# Altium integrated library ON Semi MOSFETs.IntLib: 1097 symbols (part 14 of 26)
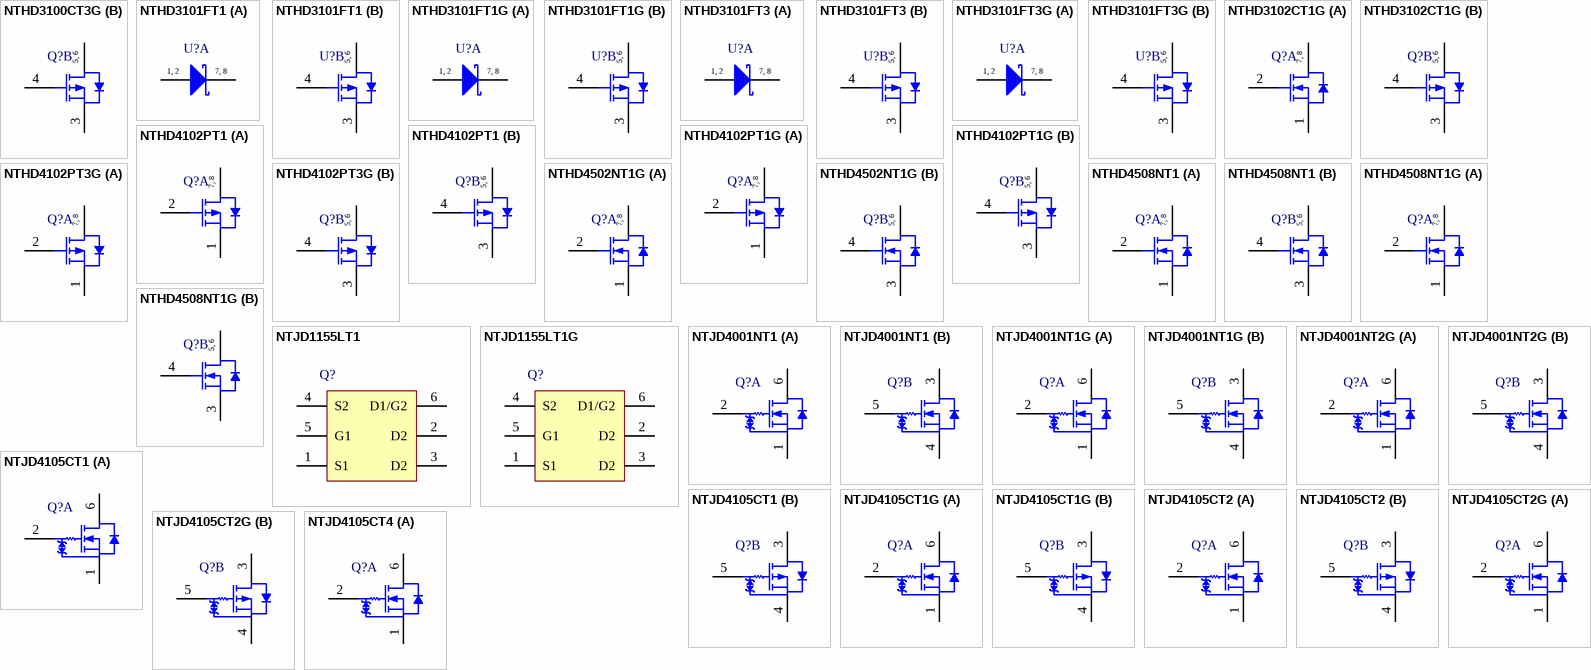
[diagram p44: symbols NTHD3100CT3G to NTJD4105CT4]

## NTJD1155LT1
designator Q?
Power MOSFET, 8 V, +/- 1.3 A, High Side Load Switch with Level-Shift, P-Channel, 6-Pin SC70, Tape and Reel; Manufacturer: On Semiconductor; PartNumber: NTJD1155LT1; Channel Polarity: P Channel; Configuration: Dual; ID Max (A): 1.3; V(BR)DSS Min (V): 8; VGS(th) Max (V): 1; DatasheetVersion: Rev. 5; PackageVersion: Rev. W; PackageReference: SC70-6-419B-02_W; PackageDescription: 6-Pin Small Outline Transistor, Body 2 x 1.25 mm, Pitch 0.65 mm; Package Type: SC-88-6 / SC-70-6 / SOT-363-6; Packing: Tape and Reel; Mounting Technology: Surface Mount; ComponentLink1Description: Manufacturer URL; ComponentLink1URL: http://www.onsemi.com/; ComponentLink2Description: Datasheet; ComponentLink2URL: http://www.onsemi.com/pub_link/Collateral/NTJD1155L-D.PDF; ComponentLink3Description: Package Specification; ComponentLink3URL: http://www.onsemi.com/pub_link/Collateral/SMF05C-D.PDF
footprint ONSC-SC70-6-419B-02_W_V (SOT23, 6-Leads, Body 2x1.25mm, Pitch 0.65mm)
pins: 1 S1, 2 D2, 3 D2, 4 S2, 5 G1, 6 D1/G2

## NTJD1155LT1G
designator Q?
Power MOSFET, 8 V, +/- 1.3 A, High Side Load Switch with Level-Shift, P-Channel, 6-Pin SC70, Pb-Free, Tape and Reel; Manufacturer: On Semiconductor; PartNumber: NTJD1155LT1G; Channel Polarity: P Channel; Configuration: Dual; ID Max (A): 1.3; V(BR)DSS Min (V): 8; VGS(th) Max (V): 1; DatasheetVersion: Rev. 5; PackageVersion: Rev. W; PackageReference: SC70-6-419B-02_W; PackageDescription: 6-Pin Small Outline Transistor, Body 2 x 1.25 mm, Pitch 0.65 mm; Package Type: SC-88-6 / SC-70-6 / SOT-363-6; Packing: Tape and Reel; RoHS: Pb-Free; Mounting Technology: Surface Mount; ComponentLink1Description: Manufacturer URL; ComponentLink1URL: http://www.onsemi.com/; ComponentLink2Description: Datasheet; ComponentLink2URL: http://www.onsemi.com/pub_link/Collateral/NTJD1155L-D.PDF; ComponentLink3Description: Package Specification; ComponentLink3URL: http://www.onsemi.com/pub_link/Collateral/SMF05C-D.PDF
footprint ONSC-SC70-6-419B-02_W_V (SOT23, 6-Leads, Body 2x1.25mm, Pitch 0.65mm)
pins: 1 S1, 2 D2, 3 D2, 4 S2, 5 G1, 6 D1/G2

## NTJD4001NT1
designator Q?
Small Signal MOSFET 30 V, 250 mA, Dual N-Channel, 6-Pin SOT-363, Tape and Reel; Manufacturer: On Semiconductor; PartNumber: NTJD4001NT1; Channel Polarity: N Channel; Ciss Typ (pF): 20; Coss Typ (pF): 19; Crss Typ (pF): 7.25; ID Max (A): 0.25; PD Max (W): 0.272; V(BR)DSS Min (V): 30; VGS(th) Max (V): 1.5; DatasheetVersion: Rev. 6; PackageVersion: Rev. W, 01/2006; PackageReference: SOT-363-6-419B-02_W; PackageDescription: 6-Pin Small Outline Transistor, Body 2 x 1.25 mm, Pitch 0.65 mm; Configuration: Dual; Package Type: SC-88-6 / SC-70-6 / SOT-363-6; Packing: Tape and Reel; VGS Max (V): 20; Mounting Technology: Surface Mount; ComponentLink1Description: Manufacturer URL; ComponentLink1URL: http://www.onsemi.com/; ComponentLink2Description: Datasheet; ComponentLink2URL: http://www.onsemi.com/pub_link/Collateral/NTJD4001N-D.PDF; ComponentLink3Description: Package Specification; ComponentLink3URL: http://www.onsemi.com/pub_link/Collateral/NTJD4001N-D.PDF
footprint ONSC-SOT-363-6-419B-02_W_V (SOT23, 6-Leads, Body 2x1.25mm, Pitch 0.65mm)
part A pins: 1 S1, 2 G1, 6 D1
part B pins: 3 D2, 4 S2, 5 G2

## NTJD4001NT1G
designator Q?
Small Signal MOSFET 30 V, 250 mA, Dual N-Channel, 6-Pin SOT-363, Pb-Free, Tape and Reel; Manufacturer: On Semiconductor; PartNumber: NTJD4001NT1G; Channel Polarity: N Channel; Ciss Typ (pF): 20; Coss Typ (pF): 19; Crss Typ (pF): 7.25; ID Max (A): 0.25; PD Max (W): 0.272; V(BR)DSS Min (V): 30; VGS(th) Max (V): 1.5; DatasheetVersion: Rev. 6; PackageVersion: Rev. W, 01/2006; PackageReference: SOT-363-6-419B-02_W; PackageDescription: 6-Pin Small Outline Transistor, Body 2 x 1.25 mm, Pitch 0.65 mm; Configuration: Dual; Package Type: SC-88-6 / SC-70-6 / SOT-363-6; Packing: Tape and Reel; RoHS: Pb-Free; VGS Max (V): 20; Mounting Technology: Surface Mount; ComponentLink1Description: Manufacturer URL; ComponentLink1URL: http://www.onsemi.com/; ComponentLink2Description: Datasheet; ComponentLink2URL: http://www.onsemi.com/pub_link/Collateral/NTJD4001N-D.PDF; ComponentLink3Description: Package Specification; ComponentLink3URL: http://www.onsemi.com/pub_link/Collateral/NTJD4001N-D.PDF
footprint ONSC-SOT-363-6-419B-02_W_V (SOT23, 6-Leads, Body 2x1.25mm, Pitch 0.65mm)
part A pins: 1 S1, 2 G1, 6 D1
part B pins: 3 D2, 4 S2, 5 G2

## NTJD4001NT2G
designator Q?
Small Signal MOSFET 30 V, 250 mA, Dual N-Channel, 6-Pin SOT-363, Pb-Free, Tape and Reel; Manufacturer: On Semiconductor; PartNumber: NTJD4001NT2G; Channel Polarity: N Channel; Ciss Typ (pF): 20; Coss Typ (pF): 19; Crss Typ (pF): 7.25; ID Max (A): 0.25; PD Max (W): 0.272; V(BR)DSS Min (V): 30; VGS(th) Max (V): 1.5; DatasheetVersion: Rev. 6; PackageVersion: Rev. W, 01/2006; PackageReference: SOT-363-6-419B-02_W; PackageDescription: 6-Pin Small Outline Transistor, Body 2 x 1.25 mm, Pitch 0.65 mm; Configuration: Dual; Package Type: SC-88-6 / SC-70-6 / SOT-363-6; Packing: Tape and Reel; RoHS: Pb-Free; VGS Max (V): 20; Mounting Technology: Surface Mount; ComponentLink1Description: Manufacturer URL; ComponentLink1URL: http://www.onsemi.com/; ComponentLink2Description: Datasheet; ComponentLink2URL: http://www.onsemi.com/pub_link/Collateral/NTJD4001N-D.PDF; ComponentLink3Description: Package Specification; ComponentLink3URL: http://www.onsemi.com/pub_link/Collateral/NTJD4001N-D.PDF
footprint ONSC-SOT-363-6-419B-02_W_V (SOT23, 6-Leads, Body 2x1.25mm, Pitch 0.65mm)
part A pins: 1 S1, 2 G1, 6 D1
part B pins: 3 D2, 4 S2, 5 G2

## NTJD4105CT1
designator Q?
Small Signal MOSFET, 20 V / -8.0 V, Complementary, +0.63 A / -0.775 A, 6-Pin SOT-363, Tape and Reel; Manufacturer: On Semiconductor; PartNumber: NTJD4105CT1; Configuration: Dual; DatasheetVersion: Rev. 2; PackageVersion: Rev. W, 01/2006; PackageReference: SOT-363-6-419B-02_W; PackageDescription: 6-Pin Small Outline Transistor, Body 2 x 1.25 mm, Pitch 0.65 mm; Channel Polarity: Complementary; Package Type: SC-88-6 / SC-70-6 / SOT-363-6; Packing: Tape and Reel; Mounting Technology: Surface Mount; ComponentLink1Description: Manufacturer URL; ComponentLink1URL: http://www.onsemi.com/; ComponentLink2Description: Datasheet; ComponentLink2URL: http://www.onsemi.com/pub_link/Collateral/NTJD4105C-D.PDF; ComponentLink3Description: Package Specification; ComponentLink3URL: http://www.onsemi.com/pub_link/Collateral/NTJD4001N-D.PDF
footprint ONSC-SOT-363-6-419B-02_W_V (SOT23, 6-Leads, Body 2x1.25mm, Pitch 0.65mm)
part A pins: 1 S1, 2 G1, 6 D1
part B pins: 3 D2, 4 S2, 5 G2

## NTJD4105CT1G
designator Q?
Small Signal MOSFET, 20 V / -8.0 V, Complementary, +0.63 A / -0.775 A, 6-Pin SOT-363, Pb-Free, Tape and Reel; Manufacturer: On Semiconductor; PartNumber: NTJD4105CT1G; Configuration: Dual; DatasheetVersion: Rev. 2; PackageVersion: Rev. W, 01/2006; PackageReference: SOT-363-6-419B-02_W; PackageDescription: 6-Pin Small Outline Transistor, Body 2 x 1.25 mm, Pitch 0.65 mm; Channel Polarity: Complementary; Package Type: SC-88-6 / SC-70-6 / SOT-363-6; Packing: Tape and Reel; RoHS: Pb-Free; Mounting Technology: Surface Mount; ComponentLink1Description: Manufacturer URL; ComponentLink1URL: http://www.onsemi.com/; ComponentLink2Description: Datasheet; ComponentLink2URL: http://www.onsemi.com/pub_link/Collateral/NTJD4105C-D.PDF; ComponentLink3Description: Package Specification; ComponentLink3URL: http://www.onsemi.com/pub_link/Collateral/NTJD4001N-D.PDF
footprint ONSC-SOT-363-6-419B-02_W_V (SOT23, 6-Leads, Body 2x1.25mm, Pitch 0.65mm)
part A pins: 1 S1, 2 G1, 6 D1
part B pins: 3 D2, 4 S2, 5 G2

## NTJD4105CT2
designator Q?
Small Signal MOSFET, 20 V / -8.0 V, Complementary, +0.63 A / -0.775 A, 6-Pin SOT-363, Tape and Reel; Manufacturer: On Semiconductor; PartNumber: NTJD4105CT2; Configuration: Dual; DatasheetVersion: Rev. 2; PackageVersion: Rev. W, 01/2006; PackageReference: SOT-363-6-419B-02_W; PackageDescription: 6-Pin Small Outline Transistor, Body 2 x 1.25 mm, Pitch 0.65 mm; Channel Polarity: Complementary; Package Type: SC-88-6 / SC-70-6 / SOT-363-6; Packing: Tape and Reel; Mounting Technology: Surface Mount; ComponentLink1Description: Manufacturer URL; ComponentLink1URL: http://www.onsemi.com/; ComponentLink2Description: Datasheet; ComponentLink2URL: http://www.onsemi.com/pub_link/Collateral/NTJD4105C-D.PDF; ComponentLink3Description: Package Specification; ComponentLink3URL: http://www.onsemi.com/pub_link/Collateral/NTJD4001N-D.PDF
footprint ONSC-SOT-363-6-419B-02_W_V (SOT23, 6-Leads, Body 2x1.25mm, Pitch 0.65mm)
part A pins: 1 S1, 2 G1, 6 D1
part B pins: 3 D2, 4 S2, 5 G2

## NTJD4105CT2G
designator Q?
Small Signal MOSFET, 20 V / -8.0 V, Complementary, +0.63 A / -0.775 A, 6-Pin SOT-363, Pb-Free, Tape and Reel; Manufacturer: On Semiconductor; PartNumber: NTJD4105CT2G; Configuration: Dual; DatasheetVersion: Rev. 2; PackageVersion: Rev. W, 01/2006; PackageReference: SOT-363-6-419B-02_W; PackageDescription: 6-Pin Small Outline Transistor, Body 2 x 1.25 mm, Pitch 0.65 mm; Channel Polarity: Complementary; Package Type: SC-88-6 / SC-70-6 / SOT-363-6; Packing: Tape and Reel; RoHS: Pb-Free; Mounting Technology: Surface Mount; ComponentLink1Description: Manufacturer URL; ComponentLink1URL: http://www.onsemi.com/; ComponentLink2Description: Datasheet; ComponentLink2URL: http://www.onsemi.com/pub_link/Collateral/NTJD4105C-D.PDF; ComponentLink3Description: Package Specification; ComponentLink3URL: http://www.onsemi.com/pub_link/Collateral/NTJD4001N-D.PDF
footprint ONSC-SOT-363-6-419B-02_W_V (SOT23, 6-Leads, Body 2x1.25mm, Pitch 0.65mm)
part A pins: 1 S1, 2 G1, 6 D1
part B pins: 3 D2, 4 S2, 5 G2

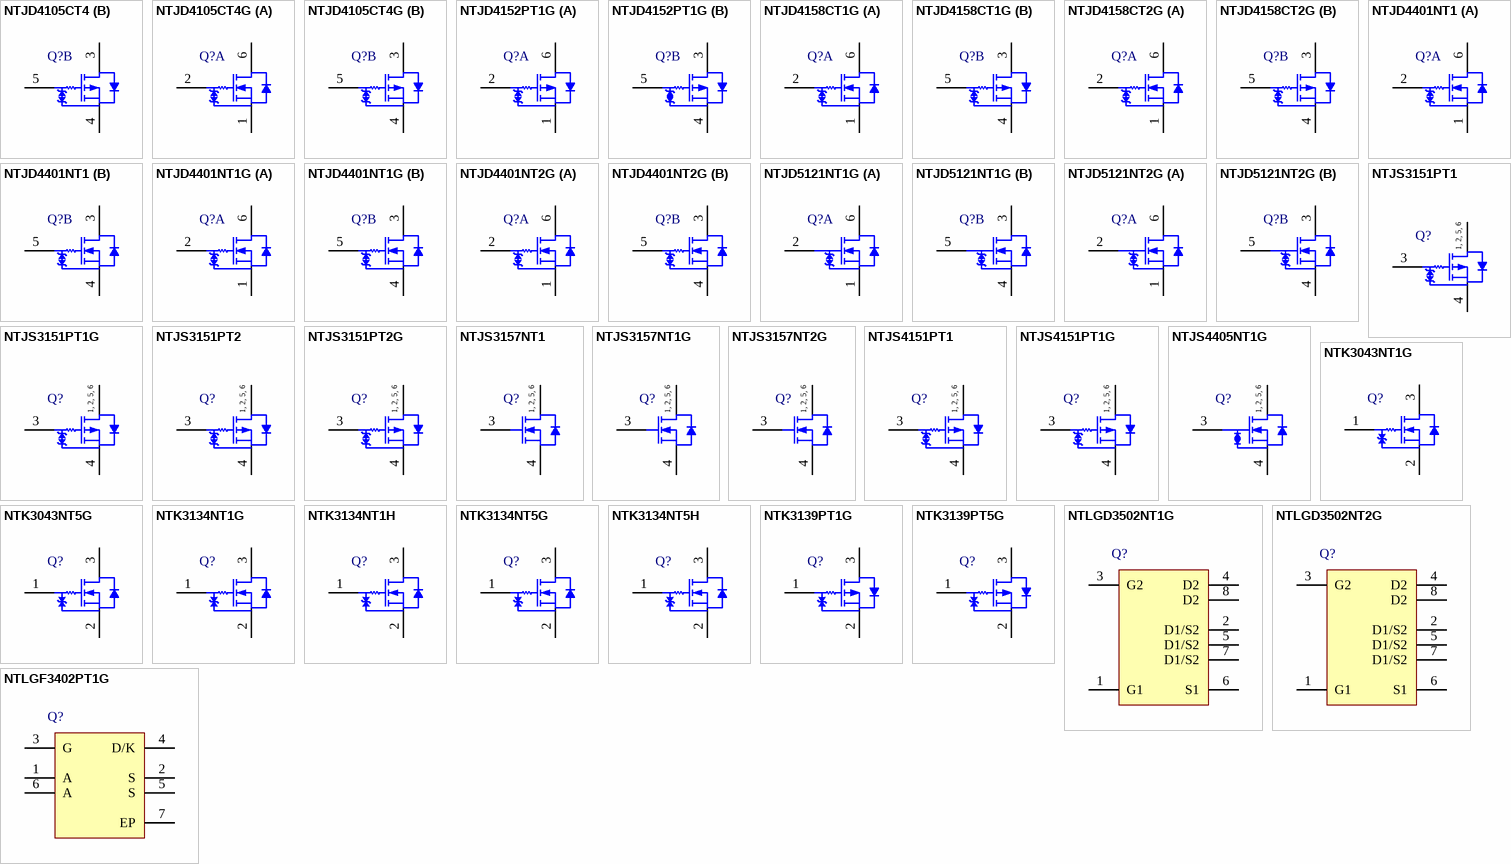
[diagram p16: symbols NTJD4105CT4 to NTLGF3402PT1G]

## NTJD4105CT4
designator Q?
Small Signal MOSFET, 20 V / -8.0 V, Complementary, +0.63 A / -0.775 A, 6-Pin SOT-363, Tape and Reel; Manufacturer: On Semiconductor; PartNumber: NTJD4105CT4; Configuration: Dual; DatasheetVersion: Rev. 2; PackageVersion: Rev. W, 01/2006; PackageReference: SOT-363-6-419B-02_W; PackageDescription: 6-Pin Small Outline Transistor, Body 2 x 1.25 mm, Pitch 0.65 mm; Channel Polarity: Complementary; Package Type: SC-88-6 / SC-70-6 / SOT-363-6; Packing: Tape and Reel; Mounting Technology: Surface Mount; ComponentLink1Description: Manufacturer URL; ComponentLink1URL: http://www.onsemi.com/; ComponentLink2Description: Datasheet; ComponentLink2URL: http://www.onsemi.com/pub_link/Collateral/NTJD4105C-D.PDF; ComponentLink3Description: Package Specification; ComponentLink3URL: http://www.onsemi.com/pub_link/Collateral/NTJD4001N-D.PDF
footprint ONSC-SOT-363-6-419B-02_W_V (SOT23, 6-Leads, Body 2x1.25mm, Pitch 0.65mm)
part A pins: 1 S1, 2 G1, 6 D1
part B pins: 3 D2, 4 S2, 5 G2

## NTJD4105CT4G
designator Q?
Small Signal MOSFET, 20 V / -8.0 V, Complementary, +0.63 A / -0.775 A, 6-Pin SOT-363, Pb-Free, Tape and Reel; Manufacturer: On Semiconductor; PartNumber: NTJD4105CT4G; Configuration: Dual; DatasheetVersion: Rev. 2; PackageVersion: Rev. W, 01/2006; PackageReference: SOT-363-6-419B-02_W; PackageDescription: 6-Pin Small Outline Transistor, Body 2 x 1.25 mm, Pitch 0.65 mm; Channel Polarity: Complementary; Package Type: SC-88-6 / SC-70-6 / SOT-363-6; Packing: Tape and Reel; RoHS: Pb-Free; Mounting Technology: Surface Mount; ComponentLink1Description: Manufacturer URL; ComponentLink1URL: http://www.onsemi.com/; ComponentLink2Description: Datasheet; ComponentLink2URL: http://www.onsemi.com/pub_link/Collateral/NTJD4105C-D.PDF; ComponentLink3Description: Package Specification; ComponentLink3URL: http://www.onsemi.com/pub_link/Collateral/NTJD4001N-D.PDF
footprint ONSC-SOT-363-6-419B-02_W_V (SOT23, 6-Leads, Body 2x1.25mm, Pitch 0.65mm)
part A pins: 1 S1, 2 G1, 6 D1
part B pins: 3 D2, 4 S2, 5 G2

## NTJD4152PT1G
designator Q?
Trench Small Signal MOSFET, 20 V, 0.88 A, Dual P-Channel, ESD Protected, 6-Pin SOT-363, Pb-Free, Tape and Reel; Manufacturer: On Semiconductor; PartNumber: NTJD4152PT1G; Channel Polarity: P Channel; Ciss Typ (pF): 155; Coss Typ (pF): 25; Crss Typ (pF): 18; ID Max (A): 0.88; V(BR)DSS Min (V): 20; VGS Max (V): 12; VGS(th) Max (V): 1.2; DatasheetVersion: Rev. 4; PackageVersion: Rev. W, 01/2006; PackageReference: SOT-363-6-419B-02_W; PackageDescription: 6-Pin Small Outline Transistor, Body 2 x 1.25 mm, Pitch 0.65 mm; Configuration: Dual; Package Type: SC-88-6 / SC-70-6 / SOT-363-6; Packing: Tape and Reel; RoHS: Pb-Free; Mounting Technology: Surface Mount; ComponentLink1Description: Manufacturer URL; ComponentLink1URL: http://www.onsemi.com/; ComponentLink2Description: Datasheet; ComponentLink2URL: http://www.onsemi.com/pub_link/Collateral/NTJD4152P-D.PDF; ComponentLink3Description: Package Specification; ComponentLink3URL: http://www.onsemi.com/pub_link/Collateral/NTJD4001N-D.PDF
footprint ONSC-SOT-363-6-419B-02_W_V (SOT23, 6-Leads, Body 2x1.25mm, Pitch 0.65mm)
part A pins: 1 S1, 2 G1, 6 D1
part B pins: 3 D2, 4 S2, 5 G2

## NTJD4158CT1G
designator Q?
Small Signal MOSFET, 30 V / -20 V, +0.25 / -0.88 A, Complementary, 6-Pin SC70, Pb-Free, Tape and Reel; Manufacturer: On Semiconductor; PartNumber: NTJD4158CT1G; Configuration: Dual; PD Max (W): 0.27; VGS(th) Max (V): 1.5; DatasheetVersion: Rev. 2; PackageVersion: Rev. W; PackageReference: SC70-6-419B-02_W; PackageDescription: 6-Pin Small Outline Transistor, Body 2 x 1.25 mm, Pitch 0.65 mm; Channel Polarity: Complementary; Package Type: SC-88-6 / SC-70-6 / SOT-363-6; Packing: Tape and Reel; RoHS: Pb-Free; Mounting Technology: Surface Mount; ComponentLink1Description: Manufacturer URL; ComponentLink1URL: http://www.onsemi.com/; ComponentLink2Description: Datasheet; ComponentLink2URL: http://www.onsemi.com/pub_link/Collateral/NTJD4158C-D.PDF; ComponentLink3Description: Package Specification; ComponentLink3URL: http://www.onsemi.com/pub_link/Collateral/SMF05C-D.PDF
footprint ONSC-SC70-6-419B-02_W_V (SOT23, 6-Leads, Body 2x1.25mm, Pitch 0.65mm)
part A pins: 1 S1, 2 G1, 6 D1
part B pins: 3 D2, 4 S2, 5 G2

## NTJD4158CT2G
designator Q?
Small Signal MOSFET, 30 V / -20 V, +0.25 / -0.88 A, Complementary, 6-Pin SC70, Pb-Free, Tape and Reel; Manufacturer: On Semiconductor; PartNumber: NTJD4158CT2G; Configuration: Dual; PD Max (W): 0.27; VGS(th) Max (V): 1.5; DatasheetVersion: Rev. 2; PackageVersion: Rev. W; PackageReference: SC70-6-419B-02_W; PackageDescription: 6-Pin Small Outline Transistor, Body 2 x 1.25 mm, Pitch 0.65 mm; Channel Polarity: Complementary; Package Type: SC-88-6 / SC-70-6 / SOT-363-6; Packing: Tape and Reel; RoHS: Pb-Free; Mounting Technology: Surface Mount; ComponentLink1Description: Manufacturer URL; ComponentLink1URL: http://www.onsemi.com/; ComponentLink2Description: Datasheet; ComponentLink2URL: http://www.onsemi.com/pub_link/Collateral/NTJD4158C-D.PDF; ComponentLink3Description: Package Specification; ComponentLink3URL: http://www.onsemi.com/pub_link/Collateral/SMF05C-D.PDF
footprint ONSC-SC70-6-419B-02_W_V (SOT23, 6-Leads, Body 2x1.25mm, Pitch 0.65mm)
part A pins: 1 S1, 2 G1, 6 D1
part B pins: 3 D2, 4 S2, 5 G2

## NTJD4401NT1
designator Q?
Small Signal MOSFET, 20 V, Dual N-Channel, ESD Protection, 6-Pin SC70, Tape and Reel; Manufacturer: On Semiconductor; PartNumber: NTJD4401NT1; Channel Polarity: N Channel; Ciss Typ (pF): 33; Coss Typ (pF): 13; Crss Typ (pF): 2.8; ID Max (A): 0.63; V(BR)DSS Min (V): 20; VGS Max (V): 12; VGS(th) Max (V): 1.5; DatasheetVersion: Rev. 6; PackageVersion: Rev. W; PackageReference: SC70-6-419B-02_W; PackageDescription: 6-Pin Small Outline Transistor, Body 2 x 1.25 mm, Pitch 0.65 mm; Configuration: Dual; Package Type: SC-88-6 / SC-70-6 / SOT-363-6; Packing: Tape and Reel; Mounting Technology: Surface Mount; ComponentLink1Description: Manufacturer URL; ComponentLink1URL: http://www.onsemi.com/; ComponentLink2Description: Datasheet; ComponentLink2URL: http://www.onsemi.com/pub_link/Collateral/NTJD4401N-D.PDF; ComponentLink3Description: Package Specification; ComponentLink3URL: http://www.onsemi.com/pub_link/Collateral/SMF05C-D.PDF
footprint ONSC-SC70-6-419B-02_W_V (SOT23, 6-Leads, Body 2x1.25mm, Pitch 0.65mm)
part A pins: 1 S1, 2 G1, 6 D1
part B pins: 3 D2, 4 S2, 5 G2

## NTJD4401NT1G
designator Q?
Small Signal MOSFET, 20 V, Dual N-Channel, ESD Protection, 6-Pin SC70, Pb-Free, Tape and Reel; Manufacturer: On Semiconductor; PartNumber: NTJD4401NT1G; Channel Polarity: N Channel; Ciss Typ (pF): 33; Coss Typ (pF): 13; Crss Typ (pF): 2.8; ID Max (A): 0.63; V(BR)DSS Min (V): 20; VGS Max (V): 12; VGS(th) Max (V): 1.5; DatasheetVersion: Rev. 6; PackageVersion: Rev. W; PackageReference: SC70-6-419B-02_W; PackageDescription: 6-Pin Small Outline Transistor, Body 2 x 1.25 mm, Pitch 0.65 mm; Configuration: Dual; Package Type: SC-88-6 / SC-70-6 / SOT-363-6; Packing: Tape and Reel; RoHS: Pb-Free; Mounting Technology: Surface Mount; ComponentLink1Description: Manufacturer URL; ComponentLink1URL: http://www.onsemi.com/; ComponentLink2Description: Datasheet; ComponentLink2URL: http://www.onsemi.com/pub_link/Collateral/NTJD4401N-D.PDF; ComponentLink3Description: Package Specification; ComponentLink3URL: http://www.onsemi.com/pub_link/Collateral/SMF05C-D.PDF
footprint ONSC-SC70-6-419B-02_W_V (SOT23, 6-Leads, Body 2x1.25mm, Pitch 0.65mm)
part A pins: 1 S1, 2 G1, 6 D1
part B pins: 3 D2, 4 S2, 5 G2

## NTJD4401NT2G
designator Q?
Small Signal MOSFET, 20 V, Dual N-Channel, ESD Protection, 6-Pin SC70, Pb-Free, Tape and Reel; Manufacturer: On Semiconductor; PartNumber: NTJD4401NT2G; Channel Polarity: N Channel; Ciss Typ (pF): 33; Coss Typ (pF): 13; Crss Typ (pF): 2.8; ID Max (A): 0.63; V(BR)DSS Min (V): 20; VGS Max (V): 12; VGS(th) Max (V): 1.5; DatasheetVersion: Rev. 6; PackageVersion: Rev. W; PackageReference: SC70-6-419B-02_W; PackageDescription: 6-Pin Small Outline Transistor, Body 2 x 1.25 mm, Pitch 0.65 mm; Configuration: Dual; Package Type: SC-88-6 / SC-70-6 / SOT-363-6; Packing: Tape and Reel; RoHS: Pb-Free; Mounting Technology: Surface Mount; ComponentLink1Description: Manufacturer URL; ComponentLink1URL: http://www.onsemi.com/; ComponentLink2Description: Datasheet; ComponentLink2URL: http://www.onsemi.com/pub_link/Collateral/NTJD4401N-D.PDF; ComponentLink3Description: Package Specification; ComponentLink3URL: http://www.onsemi.com/pub_link/Collateral/SMF05C-D.PDF
footprint ONSC-SC70-6-419B-02_W_V (SOT23, 6-Leads, Body 2x1.25mm, Pitch 0.65mm)
part A pins: 1 S1, 2 G1, 6 D1
part B pins: 3 D2, 4 S2, 5 G2

## NTJD5121NT1G
designator Q?
Power MOSFET, 60 V, 295 mA, Dual N-Channel with ESD Protection, 6-Pin SC70, Pb-Free, Tape and Reel; Manufacturer: On Semiconductor; PartNumber: NTJD5121NT1G; Channel Polarity: N Channel; Ciss Typ (pF): 26; Coss Typ (pF): 4.4; Crss Typ (pF): 2.5; ID Max (A): 0.295; V(BR)DSS Min (V): 60; VGS Max (V): 20; DatasheetVersion: Rev. 6; PackageVersion: Rev. Y, 12/2012; PackageReference: SC70-6-419B-02; PackageDescription: 6-Pin Small Outline Transistor, Body 2 x 1.25 mm, Pitch 0.65 mm; Configuration: Dual; Package Type: SC-88-6; Packing: Tape and Reel; RoHS: Pb-Free; VGS(th) Max (V): 2.5; Mounting Technology: Surface Mount; ComponentLink1Description: Manufacturer URL; ComponentLink1URL: http://www.onsemi.com/; ComponentLink2Description: Datasheet; ComponentLink2URL: http://www.onsemi.com/pub_link/Collateral/NTJD5121N-D.PDF; ComponentLink3Description: Package Specification; ComponentLink3URL: http://www.onsemi.com/pub_link/Collateral/419B-02.PDF
footprint ONSC-SC70-6-419B-02_V (SOT23, 6-Leads, Body 2x1.25mm, Pitch 0.65mm)
part A pins: 1 S1, 2 G1, 6 D1
part B pins: 3 D2, 4 S2, 5 G2

## NTJD5121NT2G
designator Q?
Power MOSFET, 60 V, 295 mA, Dual N-Channel with ESD Protection, 6-Pin SC70, Pb-Free, Tape and Reel; Manufacturer: On Semiconductor; PartNumber: NTJD5121NT2G; Channel Polarity: N Channel; Ciss Typ (pF): 26; Coss Typ (pF): 4.4; Crss Typ (pF): 2.5; ID Max (A): 0.295; V(BR)DSS Min (V): 60; VGS Max (V): 20; DatasheetVersion: Rev. 6; PackageVersion: Rev. Y, 12/2012; PackageReference: SC70-6-419B-02; PackageDescription: 6-Pin Small Outline Transistor, Body 2 x 1.25 mm, Pitch 0.65 mm; Configuration: Dual; Package Type: SC-88-6; Packing: Tape and Reel; RoHS: Pb-Free; VGS(th) Max (V): 2.5; Mounting Technology: Surface Mount; ComponentLink1Description: Manufacturer URL; ComponentLink1URL: http://www.onsemi.com/; ComponentLink2Description: Datasheet; ComponentLink2URL: http://www.onsemi.com/pub_link/Collateral/NTJD5121N-D.PDF; ComponentLink3Description: Package Specification; ComponentLink3URL: http://www.onsemi.com/pub_link/Collateral/419B-02.PDF
footprint ONSC-SC70-6-419B-02_V (SOT23, 6-Leads, Body 2x1.25mm, Pitch 0.65mm)
part A pins: 1 S1, 2 G1, 6 D1
part B pins: 3 D2, 4 S2, 5 G2

## NTJS3151PT1
designator Q?
Trench Power MOSFET, 12 V, 3.3 A, Single P-Channel, ESD Protected, 6-Pin SC70, Tape and Reel; Manufacturer: On Semiconductor; PartNumber: NTJS3151PT1; Channel Polarity: P Channel; Ciss Typ (pF): 850; Coss Typ (pF): 170; Crss Typ (pF): 110; ID Max (A): 3.3; PD Max (W): 0.625; V(BR)DSS Min (V): 12; DatasheetVersion: Rev. 2; PackageVersion: Rev. W; PackageReference: SC70-6-419B-02_W; PackageDescription: 6-Pin Small Outline Transistor, Body 2 x 1.25 mm, Pitch 0.65 mm; Configuration: Single; Package Type: SC-88-6 / SC-70-6 / SOT-363-6; Packing: Tape and Reel; VGS Max (V): 12; Mounting Technology: Surface Mount; ComponentLink1Description: Manufacturer URL; ComponentLink1URL: http://www.onsemi.com/; ComponentLink2Description: Datasheet; ComponentLink2URL: http://www.onsemi.com/pub_link/Collateral/NTJS3151P-D.PDF; ComponentLink3Description: Package Specification; ComponentLink3URL: http://www.onsemi.com/pub_link/Collateral/SMF05C-D.PDF
footprint ONSC-SC70-6-419B-02_W_V (SOT23, 6-Leads, Body 2x1.25mm, Pitch 0.65mm)
pins: 1 D, 2 D, 3 G, 4 S, 5 D, 6 D
text: 1, 2, 5, 6

## NTJS3151PT1G
designator Q?
Trench Power MOSFET, 12 V, 3.3 A, Single P-Channel, ESD Protected, 6-Pin SC70, Pb-Free, Tape and Reel; Manufacturer: On Semiconductor; PartNumber: NTJS3151PT1G; Channel Polarity: P Channel; Ciss Typ (pF): 850; Coss Typ (pF): 170; Crss Typ (pF): 110; ID Max (A): 3.3; PD Max (W): 0.625; V(BR)DSS Min (V): 12; DatasheetVersion: Rev. 2; PackageVersion: Rev. W; PackageReference: SC70-6-419B-02_W; PackageDescription: 6-Pin Small Outline Transistor, Body 2 x 1.25 mm, Pitch 0.65 mm; Configuration: Single; Package Type: SC-88-6 / SC-70-6 / SOT-363-6; Packing: Tape and Reel; RoHS: Pb-Free; VGS Max (V): 12; Mounting Technology: Surface Mount; ComponentLink1Description: Manufacturer URL; ComponentLink1URL: http://www.onsemi.com/; ComponentLink2Description: Datasheet; ComponentLink2URL: http://www.onsemi.com/pub_link/Collateral/NTJS3151P-D.PDF; ComponentLink3Description: Package Specification; ComponentLink3URL: http://www.onsemi.com/pub_link/Collateral/SMF05C-D.PDF
footprint ONSC-SC70-6-419B-02_W_V (SOT23, 6-Leads, Body 2x1.25mm, Pitch 0.65mm)
pins: 1 D, 2 D, 3 G, 4 S, 5 D, 6 D
text: 1, 2, 5, 6

## NTJS3151PT2
designator Q?
Trench Power MOSFET, 12 V, 3.3 A, Single P-Channel, ESD Protected, 6-Pin SC70, Tape and Reel; Manufacturer: On Semiconductor; PartNumber: NTJS3151PT2; Channel Polarity: P Channel; Ciss Typ (pF): 850; Coss Typ (pF): 170; Crss Typ (pF): 110; ID Max (A): 3.3; PD Max (W): 0.625; V(BR)DSS Min (V): 12; DatasheetVersion: Rev. 2; PackageVersion: Rev. W; PackageReference: SC70-6-419B-02_W; PackageDescription: 6-Pin Small Outline Transistor, Body 2 x 1.25 mm, Pitch 0.65 mm; Configuration: Single; Package Type: SC-88-6 / SC-70-6 / SOT-363-6; Packing: Tape and Reel; VGS Max (V): 12; Mounting Technology: Surface Mount; ComponentLink1Description: Manufacturer URL; ComponentLink1URL: http://www.onsemi.com/; ComponentLink2Description: Datasheet; ComponentLink2URL: http://www.onsemi.com/pub_link/Collateral/NTJS3151P-D.PDF; ComponentLink3Description: Package Specification; ComponentLink3URL: http://www.onsemi.com/pub_link/Collateral/SMF05C-D.PDF
footprint ONSC-SC70-6-419B-02_W_V (SOT23, 6-Leads, Body 2x1.25mm, Pitch 0.65mm)
pins: 1 D, 2 D, 3 G, 4 S, 5 D, 6 D
text: 1, 2, 5, 6

## NTJS3151PT2G
designator Q?
Trench Power MOSFET, 12 V, 3.3 A, Single P-Channel, ESD Protected, 6-Pin SC70, Pb-Free, Tape and Reel; Manufacturer: On Semiconductor; PartNumber: NTJS3151PT2G; Channel Polarity: P Channel; Ciss Typ (pF): 850; Coss Typ (pF): 170; Crss Typ (pF): 110; ID Max (A): 3.3; PD Max (W): 0.625; V(BR)DSS Min (V): 12; DatasheetVersion: Rev. 2; PackageVersion: Rev. W; PackageReference: SC70-6-419B-02_W; PackageDescription: 6-Pin Small Outline Transistor, Body 2 x 1.25 mm, Pitch 0.65 mm; Configuration: Single; Package Type: SC-88-6 / SC-70-6 / SOT-363-6; Packing: Tape and Reel; RoHS: Pb-Free; VGS Max (V): 12; Mounting Technology: Surface Mount; ComponentLink1Description: Manufacturer URL; ComponentLink1URL: http://www.onsemi.com/; ComponentLink2Description: Datasheet; ComponentLink2URL: http://www.onsemi.com/pub_link/Collateral/NTJS3151P-D.PDF; ComponentLink3Description: Package Specification; ComponentLink3URL: http://www.onsemi.com/pub_link/Collateral/SMF05C-D.PDF
footprint ONSC-SC70-6-419B-02_W_V (SOT23, 6-Leads, Body 2x1.25mm, Pitch 0.65mm)
pins: 1 D, 2 D, 3 G, 4 S, 5 D, 6 D
text: 1, 2, 5, 6

## NTJS3157NT1
designator Q?
Trench Power MOSFET, 20 V, 4 A, Single N-Channel, 6-Pin SC70, Tape and Reel; Manufacturer: On Semiconductor; PartNumber: NTJS3157NT1; Channel Polarity: N Channel; Ciss Typ (pF): 500; Coss Typ (pF): 75; Crss Typ (pF): 60; ID Max (A): 4; PD Max (W): 1; Qrr Typ (nC): 5; V(BR)DSS Min (V): 20; VGS Max (V): 8; DatasheetVersion: Rev. 3; PackageVersion: Rev. Y, 12/2012; PackageReference: SC70-6-419B-02; PackageDescription: 6-Pin Small Outline Transistor, Body 2 x 1.25 mm, Pitch 0.65 mm; Configuration: Single; Package Type: SC-88-6 / SC-70-6 / SOT-363-6; Packing: Tape and Reel; VGS(th) Max (V): 1; Mounting Technology: Surface Mount; ComponentLink1Description: Manufacturer URL; ComponentLink1URL: http://www.onsemi.com/; ComponentLink2Description: Datasheet; ComponentLink2URL: http://www.onsemi.com/pub_link/Collateral/NTJS3157N-D.PDF; ComponentLink3Description: Package Specification; ComponentLink3URL: http://www.onsemi.com/pub_link/Collateral/419B-02.PDF
footprint ONSC-SC70-6-419B-02_V (SOT23, 6-Leads, Body 2x1.25mm, Pitch 0.65mm)
pins: 1 D, 2 D, 3 G, 4 S, 5 D, 6 D
text: 1, 2, 5, 6

## NTJS3157NT1G
designator Q?
Trench Power MOSFET, 20 V, 4 A, Single N-Channel, 6-Pin SC70, Pb-Free, Tape and Reel; Manufacturer: On Semiconductor; PartNumber: NTJS3157NT1G; Channel Polarity: N Channel; Ciss Typ (pF): 500; Coss Typ (pF): 75; Crss Typ (pF): 60; ID Max (A): 4; PD Max (W): 1; Qrr Typ (nC): 5; V(BR)DSS Min (V): 20; VGS Max (V): 8; DatasheetVersion: Rev. 3; PackageVersion: Rev. Y, 12/2012; PackageReference: SC70-6-419B-02; PackageDescription: 6-Pin Small Outline Transistor, Body 2 x 1.25 mm, Pitch 0.65 mm; Configuration: Single; Package Type: SC-88-6 / SC-70-6 / SOT-363-6; Packing: Tape and Reel; RoHS: Pb-Free; VGS(th) Max (V): 1; Mounting Technology: Surface Mount; ComponentLink1Description: Manufacturer URL; ComponentLink1URL: http://www.onsemi.com/; ComponentLink2Description: Datasheet; ComponentLink2URL: http://www.onsemi.com/pub_link/Collateral/NTJS3157N-D.PDF; ComponentLink3Description: Package Specification; ComponentLink3URL: http://www.onsemi.com/pub_link/Collateral/419B-02.PDF
footprint ONSC-SC70-6-419B-02_V (SOT23, 6-Leads, Body 2x1.25mm, Pitch 0.65mm)
pins: 1 D, 2 D, 3 G, 4 S, 5 D, 6 D
text: 1, 2, 5, 6

## NTJS3157NT2G
designator Q?
Trench Power MOSFET, 20 V, 4 A, Single N-Channel, 6-Pin SC70, Pb-Free, Tape and Reel; Manufacturer: On Semiconductor; PartNumber: NTJS3157NT2G; Channel Polarity: N Channel; Ciss Typ (pF): 500; Coss Typ (pF): 75; Crss Typ (pF): 60; ID Max (A): 4; PD Max (W): 1; Qrr Typ (nC): 5; V(BR)DSS Min (V): 20; VGS Max (V): 8; DatasheetVersion: Rev. 3; PackageVersion: Rev. Y, 12/2012; PackageReference: SC70-6-419B-02; PackageDescription: 6-Pin Small Outline Transistor, Body 2 x 1.25 mm, Pitch 0.65 mm; Configuration: Single; Package Type: SC-88-6 / SC-70-6 / SOT-363-6; Packing: Tape and Reel; RoHS: Pb-Free; VGS(th) Max (V): 1; Mounting Technology: Surface Mount; ComponentLink1Description: Manufacturer URL; ComponentLink1URL: http://www.onsemi.com/; ComponentLink2Description: Datasheet; ComponentLink2URL: http://www.onsemi.com/pub_link/Collateral/NTJS3157N-D.PDF; ComponentLink3Description: Package Specification; ComponentLink3URL: http://www.onsemi.com/pub_link/Collateral/419B-02.PDF
footprint ONSC-SC70-6-419B-02_V (SOT23, 6-Leads, Body 2x1.25mm, Pitch 0.65mm)
pins: 1 D, 2 D, 3 G, 4 S, 5 D, 6 D
text: 1, 2, 5, 6

## NTJS4151PT1
designator Q?
Trench Power MOSFET, -20 V, -4.2 A, Single P-Channel, 6-Pin SC70, Tape and Reel; Manufacturer: On Semiconductor; PartNumber: NTJS4151PT1; Channel Polarity: P Channel; Ciss Typ (pF): 850; Coss Typ (pF): 160; Crss Typ (pF): 110; ID Max (A): 4.2; PD Max (W): 1; Qrr Typ (nC): 0.23; V(BR)DSS Min (V): 20; VGS Max (V): 12; VGS(th) Max (V): 1.2; DatasheetVersion: Rev. 1; PackageVersion: Rev. W; PackageReference: SC70-6-419B-02_W; PackageDescription: 6-Pin Small Outline Transistor, Body 2 x 1.25 mm, Pitch 0.65 mm; Configuration: Single; Package Type: SC-88-6 / SC-70-6 / SOT-363-6; Packing: Tape and Reel; Mounting Technology: Surface Mount; ComponentLink1Description: Manufacturer URL; ComponentLink1URL: http://www.onsemi.com/; ComponentLink2Description: Datasheet; ComponentLink2URL: http://www.onsemi.com/pub_link/Collateral/NTJS4151P-D.PDF; ComponentLink3Description: Package Specification; ComponentLink3URL: http://www.onsemi.com/pub_link/Collateral/SMF05C-D.PDF
footprint ONSC-SC70-6-419B-02_W_V (SOT23, 6-Leads, Body 2x1.25mm, Pitch 0.65mm)
pins: 1 D, 2 D, 3 G, 4 S, 5 D, 6 D
text: 1, 2, 5, 6

## NTJS4151PT1G
designator Q?
Trench Power MOSFET, -20 V, -4.2 A, Single P-Channel, 6-Pin SC70, Pb-Free, Tape and Reel; Manufacturer: On Semiconductor; PartNumber: NTJS4151PT1G; Channel Polarity: P Channel; Ciss Typ (pF): 850; Coss Typ (pF): 160; Crss Typ (pF): 110; ID Max (A): 4.2; PD Max (W): 1; Qrr Typ (nC): 0.23; V(BR)DSS Min (V): 20; VGS Max (V): 12; VGS(th) Max (V): 1.2; DatasheetVersion: Rev. 1; PackageVersion: Rev. W; PackageReference: SC70-6-419B-02_W; PackageDescription: 6-Pin Small Outline Transistor, Body 2 x 1.25 mm, Pitch 0.65 mm; Configuration: Single; Package Type: SC-88-6 / SC-70-6 / SOT-363-6; Packing: Tape and Reel; RoHS: Pb-Free; Mounting Technology: Surface Mount; ComponentLink1Description: Manufacturer URL; ComponentLink1URL: http://www.onsemi.com/; ComponentLink2Description: Datasheet; ComponentLink2URL: http://www.onsemi.com/pub_link/Collateral/NTJS4151P-D.PDF; ComponentLink3Description: Package Specification; ComponentLink3URL: http://www.onsemi.com/pub_link/Collateral/SMF05C-D.PDF
footprint ONSC-SC70-6-419B-02_W_V (SOT23, 6-Leads, Body 2x1.25mm, Pitch 0.65mm)
pins: 1 D, 2 D, 3 G, 4 S, 5 D, 6 D
text: 1, 2, 5, 6

## NTJS4405NT1G
designator Q?
Small Signal MOSFET, 25 V, 1.2 A, Single, N-Channel, 6-Pin SC70, Pb-Free, Tape and Reel; Manufacturer: On Semiconductor; PartNumber: NTJS4405NT1G; Channel Polarity: N Channel; Ciss Typ (pF): 49; Coss Typ (pF): 22.4; Crss Typ (pF): 8; ID Max (A): 1.2; V(BR)DSS Min (V): 25; VGS(th) Max (V): 1.5; DatasheetVersion: Rev. 6; PackageVersion: Rev. W; PackageReference: SC70-6-419B-02_W; PackageDescription: 6-Pin Small Outline Transistor, Body 2 x 1.25 mm, Pitch 0.65 mm; Configuration: Single; Package Type: SC-88-6 / SC-70-6 / SOT-363-6; Packing: Tape and Reel; RoHS: Pb-Free; VGS Max (V): 8; Mounting Technology: Surface Mount; ComponentLink1Description: Manufacturer URL; ComponentLink1URL: http://www.onsemi.com/; ComponentLink2Description: Datasheet; ComponentLink2URL: http://www.onsemi.com/pub_link/Collateral/NTJS4405N-D.PDF; ComponentLink3Description: Package Specification; ComponentLink3URL: http://www.onsemi.com/pub_link/Collateral/SMF05C-D.PDF
footprint ONSC-SC70-6-419B-02_W_V (SOT23, 6-Leads, Body 2x1.25mm, Pitch 0.65mm)
pins: 1 D, 2 D, 3 G, 4 S, 5 D, 6 D
text: 1, 2, 5, 6

## NTK3043NT1G
designator Q?
Power MOSFET, 20 V, 285 mA, N-Channel with ESD Protection, 3-Pin SOT-723, Pb-Free, Tape and Reel; Manufacturer: On Semiconductor; PartNumber: NTK3043NT1G; Channel Polarity: N Channel; Ciss Typ (pF): 11; Configuration: Single; Coss Typ (pF): 8.3; Crss Typ (pF): 2.7; ID Max (A): 0.285; Qrr Typ (nC): 3.7; V(BR)DSS Min (V): 20; VGS Max (V): 10; VGS(th) Max (V): 1.3; DatasheetVersion: Rev. 4; PackageVersion: Rev. D, 08/2009; PackageReference: SOT-723-3-631AA-01; PackageDescription: 3-Pin Small Outline Transistor, Body 1.2 x 0.8 mm, Pitch 0.4 mm; Package Type: SOT-723-3; Packing: Tape and Reel; RoHS: Pb-Free; Mounting Technology: Surface Mount; ComponentLink1Description: Manufacturer URL; ComponentLink1URL: http://www.onsemi.com/; ComponentLink2Description: Datasheet; ComponentLink2URL: http://www.onsemi.com/pub_link/Collateral/NTK3043N-D.PDF; ComponentLink3Description: Package Specification; ComponentLink3URL: http://www.onsemi.com/pub_link/Collateral/631AA.PDF
footprint ONSC-SOT-723-3-631AA-01_V (SOT223, 3-Leads, Body 1.2x0.8mm, Pitch 0.4mm)
pins: 1 G, 2 S, 3 D

## NTK3043NT5G
designator Q?
Power MOSFET, 20 V, 285 mA, N-Channel with ESD Protection, 3-Pin SOT-723, Pb-Free, Tape and Reel; Manufacturer: On Semiconductor; PartNumber: NTK3043NT5G; Channel Polarity: N Channel; Ciss Typ (pF): 11; Configuration: Single; Coss Typ (pF): 8.3; Crss Typ (pF): 2.7; ID Max (A): 0.285; Qrr Typ (nC): 3.7; V(BR)DSS Min (V): 20; VGS Max (V): 10; VGS(th) Max (V): 1.3; DatasheetVersion: Rev. 4; PackageVersion: Rev. D, 08/2009; PackageReference: SOT-723-3-631AA-01; PackageDescription: 3-Pin Small Outline Transistor, Body 1.2 x 0.8 mm, Pitch 0.4 mm; Package Type: SOT-723-3; Packing: Tape and Reel; RoHS: Pb-Free; Mounting Technology: Surface Mount; ComponentLink1Description: Manufacturer URL; ComponentLink1URL: http://www.onsemi.com/; ComponentLink2Description: Datasheet; ComponentLink2URL: http://www.onsemi.com/pub_link/Collateral/NTK3043N-D.PDF; ComponentLink3Description: Package Specification; ComponentLink3URL: http://www.onsemi.com/pub_link/Collateral/631AA.PDF
footprint ONSC-SOT-723-3-631AA-01_V (SOT223, 3-Leads, Body 1.2x0.8mm, Pitch 0.4mm)
pins: 1 G, 2 S, 3 D

## NTK3134NT1G
designator Q?
Power MOSFET, 20 V, 890 mA, Single N-Channel with ESD Protection, 3-Pin SOT-723, Pb-Free, Tape and Reel; Manufacturer: On Semiconductor; PartNumber: NTK3134NT1G; Channel Polarity: N Channel; Ciss Typ (pF): 79; Coss Typ (pF): 13; Crss Typ (pF): 9; Qrr Typ (nC): 3; V(BR)DSS Min (V): 20; VGS Max (V): 6; VGS(th) Max (V): 1.2; DatasheetVersion: Rev. 2; PackageVersion: Rev. D, 08/2009; PackageReference: SOT-723-3-631AA-01; PackageDescription: 3-Pin Small Outline Transistor, Body 1.2 x 0.8 mm, Pitch 0.4 mm; Configuration: Single; Package Type: SOT-723-3; Packing: Tape and Reel; RoHS: Pb-Free; Mounting Technology: Surface Mount; ComponentLink1Description: Manufacturer URL; ComponentLink1URL: http://www.onsemi.com/; ComponentLink2Description: Datasheet; ComponentLink2URL: http://www.onsemi.com/pub_link/Collateral/NTK3134N-D.PDF; ComponentLink3Description: Package Specification; ComponentLink3URL: http://www.onsemi.com/pub_link/Collateral/631AA.PDF
footprint ONSC-SOT-723-3-631AA-01_V (SOT223, 3-Leads, Body 1.2x0.8mm, Pitch 0.4mm)
pins: 1 G, 2 S, 3 D

## NTK3134NT1H
designator Q?
Power MOSFET, 20 V, 890 mA, Single N-Channel with ESD Protection, 3-Pin SOT-723, Pb-Free, Tape and Reel; Manufacturer: On Semiconductor; PartNumber: NTK3134NT1H; Channel Polarity: N Channel; Ciss Typ (pF): 79; Coss Typ (pF): 13; Crss Typ (pF): 9; Qrr Typ (nC): 3; V(BR)DSS Min (V): 20; VGS Max (V): 6; VGS(th) Max (V): 1.2; DatasheetVersion: Rev. 2; PackageVersion: Rev. D, 08/2009; PackageReference: SOT-723-3-631AA-01; PackageDescription: 3-Pin Small Outline Transistor, Body 1.2 x 0.8 mm, Pitch 0.4 mm; Configuration: Single; Package Type: SOT-723-3; Packing: Tape and Reel; RoHS: Pb-Free; Mounting Technology: Surface Mount; ComponentLink1Description: Manufacturer URL; ComponentLink1URL: http://www.onsemi.com/; ComponentLink2Description: Datasheet; ComponentLink2URL: http://www.onsemi.com/pub_link/Collateral/NTK3134N-D.PDF; ComponentLink3Description: Package Specification; ComponentLink3URL: http://www.onsemi.com/pub_link/Collateral/631AA.PDF
footprint ONSC-SOT-723-3-631AA-01_V (SOT223, 3-Leads, Body 1.2x0.8mm, Pitch 0.4mm)
pins: 1 G, 2 S, 3 D

## NTK3134NT5G
designator Q?
Power MOSFET, 20 V, 890 mA, Single N-Channel with ESD Protection, 3-Pin SOT-723, Pb-Free, Tape and Reel; Manufacturer: On Semiconductor; PartNumber: NTK3134NT5G; Channel Polarity: N Channel; Ciss Typ (pF): 79; Coss Typ (pF): 13; Crss Typ (pF): 9; Qrr Typ (nC): 3; V(BR)DSS Min (V): 20; VGS Max (V): 6; VGS(th) Max (V): 1.2; DatasheetVersion: Rev. 2; PackageVersion: Rev. D, 08/2009; PackageReference: SOT-723-3-631AA-01; PackageDescription: 3-Pin Small Outline Transistor, Body 1.2 x 0.8 mm, Pitch 0.4 mm; Configuration: Single; Package Type: SOT-723-3; Packing: Tape and Reel; RoHS: Pb-Free; Mounting Technology: Surface Mount; ComponentLink1Description: Manufacturer URL; ComponentLink1URL: http://www.onsemi.com/; ComponentLink2Description: Datasheet; ComponentLink2URL: http://www.onsemi.com/pub_link/Collateral/NTK3134N-D.PDF; ComponentLink3Description: Package Specification; ComponentLink3URL: http://www.onsemi.com/pub_link/Collateral/631AA.PDF
footprint ONSC-SOT-723-3-631AA-01_V (SOT223, 3-Leads, Body 1.2x0.8mm, Pitch 0.4mm)
pins: 1 G, 2 S, 3 D

## NTK3134NT5H
designator Q?
Power MOSFET, 20 V, 890 mA, Single N-Channel with ESD Protection, 3-Pin SOT-723, Pb-Free, Tape and Reel; Manufacturer: On Semiconductor; PartNumber: NTK3134NT5H; Channel Polarity: N Channel; Ciss Typ (pF): 79; Coss Typ (pF): 13; Crss Typ (pF): 9; Qrr Typ (nC): 3; V(BR)DSS Min (V): 20; VGS Max (V): 6; VGS(th) Max (V): 1.2; DatasheetVersion: Rev. 2; PackageVersion: Rev. D, 08/2009; PackageReference: SOT-723-3-631AA-01; PackageDescription: 3-Pin Small Outline Transistor, Body 1.2 x 0.8 mm, Pitch 0.4 mm; Configuration: Single; Package Type: SOT-723-3; Packing: Tape and Reel; RoHS: Pb-Free; Mounting Technology: Surface Mount; ComponentLink1Description: Manufacturer URL; ComponentLink1URL: http://www.onsemi.com/; ComponentLink2Description: Datasheet; ComponentLink2URL: http://www.onsemi.com/pub_link/Collateral/NTK3134N-D.PDF; ComponentLink3Description: Package Specification; ComponentLink3URL: http://www.onsemi.com/pub_link/Collateral/631AA.PDF
footprint ONSC-SOT-723-3-631AA-01_V (SOT223, 3-Leads, Body 1.2x0.8mm, Pitch 0.4mm)
pins: 1 G, 2 S, 3 D

## NTK3139PT1G
designator Q?
Power MOSFET, -20 V, -780 mA, Single P-Channel with ESD Protection, 3-Pin SOT-723, Pb-Free, Tape and Reel; Manufacturer: On Semiconductor; PartNumber: NTK3139PT1G; Channel Polarity: P Channel; Ciss Typ (pF): 113; Coss Typ (pF): 15; Crss Typ (pF): 9; Qrr Typ (nC): 5; V(BR)DSS Min (V): 20; VGS Max (V): 6; VGS(th) Max (V): 1.2; DatasheetVersion: Rev. 1; PackageVersion: Rev. D, 08/2009; PackageReference: SOT-723-3-631AA-01; PackageDescription: 3-Pin Small Outline Transistor, Body 1.2 x 0.8 mm, Pitch 0.4 mm; Configuration: Single; Package Type: SOT-723-3; Packing: Tape and Reel; RoHS: Pb-Free; Mounting Technology: Surface Mount; ComponentLink1Description: Manufacturer URL; ComponentLink1URL: http://www.onsemi.com/; ComponentLink2Description: Datasheet; ComponentLink2URL: http://www.onsemi.com/pub_link/Collateral/NTK3139P-D.PDF; ComponentLink3Description: Package Specification; ComponentLink3URL: http://www.onsemi.com/pub_link/Collateral/631AA.PDF
footprint ONSC-SOT-723-3-631AA-01_V (SOT223, 3-Leads, Body 1.2x0.8mm, Pitch 0.4mm)
pins: 1 G, 2 S, 3 D

## NTK3139PT5G
designator Q?
Power MOSFET, -20 V, -780 mA, Single P-Channel with ESD Protection, 3-Pin SOT-723, Pb-Free, Tape and Reel; Manufacturer: On Semiconductor; PartNumber: NTK3139PT5G; Channel Polarity: P Channel; Ciss Typ (pF): 113; Coss Typ (pF): 15; Crss Typ (pF): 9; Qrr Typ (nC): 5; V(BR)DSS Min (V): 20; VGS Max (V): 6; VGS(th) Max (V): 1.2; DatasheetVersion: Rev. 1; PackageVersion: Rev. D, 08/2009; PackageReference: SOT-723-3-631AA-01; PackageDescription: 3-Pin Small Outline Transistor, Body 1.2 x 0.8 mm, Pitch 0.4 mm; Configuration: Single; Package Type: SOT-723-3; Packing: Tape and Reel; RoHS: Pb-Free; Mounting Technology: Surface Mount; ComponentLink1Description: Manufacturer URL; ComponentLink1URL: http://www.onsemi.com/; ComponentLink2Description: Datasheet; ComponentLink2URL: http://www.onsemi.com/pub_link/Collateral/NTK3139P-D.PDF; ComponentLink3Description: Package Specification; ComponentLink3URL: http://www.onsemi.com/pub_link/Collateral/631AA.PDF
footprint ONSC-SOT-723-3-631AA-01_V (SOT223, 3-Leads, Body 1.2x0.8mm, Pitch 0.4mm)
pins: 1 G, 2 S, 3 D

## NTLGD3502NT1G
designator Q?
Power MOSFET, 20 V, 5.8 A / 4.6 A Dual N-Channel, 6-Pin DFN, Pb-Free, Tape and Reel; Manufacturer: On Semiconductor; PartNumber: NTLGD3502NT1G; Channel Polarity: N Channel; PD Max (W): 1.74; V(BR)DSS Min (V): 20; VGS(th) Max (V): 2; DatasheetVersion: Rev. 1; PackageVersion: Rev. O, 11/2004; PackageReference: DFN-6-506AG-01; PackageDescription: 6-Pin Small Outline No-Lead, Body 3 x 3 mm, Pitch 0.95 mm; Configuration: Dual; Package Type: DFN-6; Packing: Tape and Reel; RoHS: Pb-Free; Mounting Technology: Surface Mount; ComponentLink1Description: Manufacturer URL; ComponentLink1URL: http://www.onsemi.com/; ComponentLink2Description: Datasheet; ComponentLink2URL: http://www.onsemi.com/pub_link/Collateral/NTLGD3502N-D.PDF; ComponentLink3Description: Package Specification; ComponentLink3URL: http://www.onsemi.com/pub_link/Collateral/506AG.PDF
footprint ONSC-DFN-6-506AG-01_V (SON, 6-Leads, Body 3x3mm, Pitch 0.95mm)
pins: 1 G1, 2 D1/S2, 3 G2, 4 D2, 5 D1/S2, 6 S1, 7 D1/S2, 8 D2

## NTLGD3502NT2G
designator Q?
Power MOSFET, 20 V, 5.8 A / 4.6 A Dual N-Channel, 6-Pin DFN, Pb-Free, Tape and Reel; Manufacturer: On Semiconductor; PartNumber: NTLGD3502NT2G; Channel Polarity: N Channel; PD Max (W): 1.74; V(BR)DSS Min (V): 20; VGS(th) Max (V): 2; DatasheetVersion: Rev. 1; PackageVersion: Rev. O, 11/2004; PackageReference: DFN-6-506AG-01; PackageDescription: 6-Pin Small Outline No-Lead, Body 3 x 3 mm, Pitch 0.95 mm; Configuration: Dual; Package Type: DFN-6; Packing: Tape and Reel; RoHS: Pb-Free; Mounting Technology: Surface Mount; ComponentLink1Description: Manufacturer URL; ComponentLink1URL: http://www.onsemi.com/; ComponentLink2Description: Datasheet; ComponentLink2URL: http://www.onsemi.com/pub_link/Collateral/NTLGD3502N-D.PDF; ComponentLink3Description: Package Specification; ComponentLink3URL: http://www.onsemi.com/pub_link/Collateral/506AG.PDF
footprint ONSC-DFN-6-506AG-01_V (SON, 6-Leads, Body 3x3mm, Pitch 0.95mm)
pins: 1 G1, 2 D1/S2, 3 G2, 4 D2, 5 D1/S2, 6 S1, 7 D1/S2, 8 D2

## NTLGF3402PT1G
designator Q?
Power MOSFET and Schottky Diode, -20 V, -3.9 A FETKY(R), P-Channel, 2 A Schottky Barrier Diode, 6-Pin DFN, Pb-Free, Tape and Reel; Manufacturer: On Semiconductor; PartNumber: NTLGF3402PT1G; Channel Polarity: P Channel; Ciss Typ (pF): 230; Configuration: with Schottky Diode; Coss Typ (pF): 105; Crss Typ (pF): 40; ID Max (A): 3.9; Qrr Typ (nC): 37; V(BR)DSS Min (V): 20; VGS Max (V): 12; VGS(th) Max (V): 2; DatasheetVersion: Rev. 1; PackageVersion: Rev. O, 11/2004; PackageReference: DFN-6-506AH-01; PackageDescription: 6-Pin Small Outline No-Lead, Body 3 x 3 mm, Pitch 0.95 mm; Package Type: DFN-6; Packing: Tape and Reel; RoHS: Pb-Free; Mounting Technology: Surface Mount; ComponentLink1Description: Manufacturer URL; ComponentLink1URL: http://www.onsemi.com/; ComponentLink2Description: Datasheet; ComponentLink2URL: http://www.onsemi.com/pub_link/Collateral/NTLGF3402P-D.PDF; ComponentLink3Description: Package Specification; ComponentLink3URL: http://www.onsemi.com/pub_link/Collateral/506AH.PDF
footprint ONSC-DFN-6-506AH-01_V (SON, 6-Leads, Body 3x3mm, Pitch 0.95mm, Thermal Pad 2.6x1.7mm)
pins: 1 A, 2 S, 3 G, 4 D/K, 5 S, 6 A, 7 EP

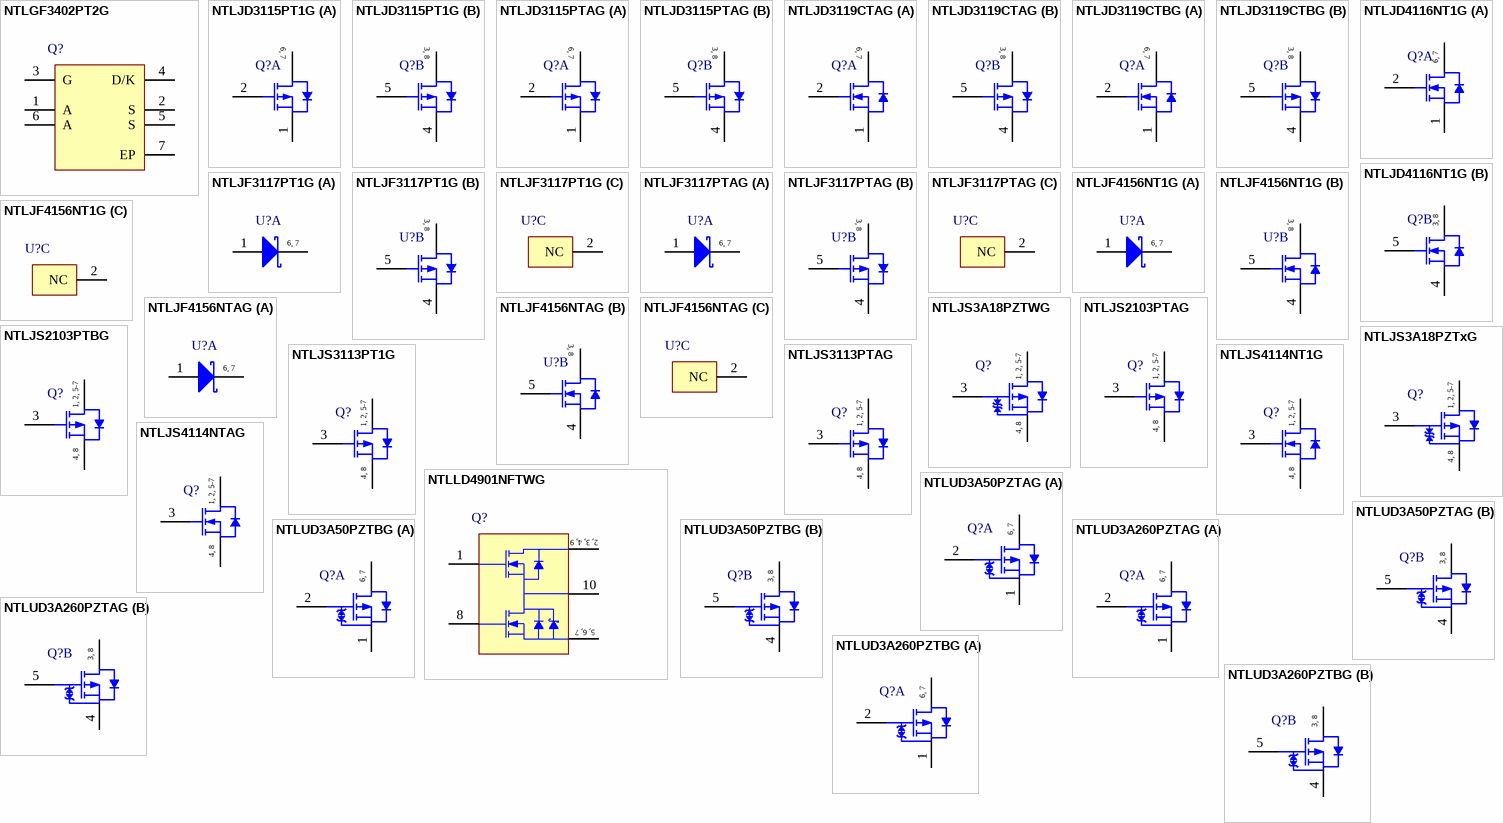
[diagram p17: symbols NTLGF3402PT2G to NTLUD3A260PZTBG]

## NTLGF3402PT2G
designator Q?
Power MOSFET and Schottky Diode, -20 V, -3.9 A FETKY(R), P-Channel, 2 A Schottky Barrier Diode, 6-Pin DFN, Pb-Free, Tape and Reel; Manufacturer: On Semiconductor; PartNumber: NTLGF3402PT2G; Channel Polarity: P Channel; Ciss Typ (pF): 230; Configuration: with Schottky Diode; Coss Typ (pF): 105; Crss Typ (pF): 40; ID Max (A): 3.9; Qrr Typ (nC): 37; V(BR)DSS Min (V): 20; VGS Max (V): 12; VGS(th) Max (V): 2; DatasheetVersion: Rev. 1; PackageVersion: Rev. O, 11/2004; PackageReference: DFN-6-506AH-01; PackageDescription: 6-Pin Small Outline No-Lead, Body 3 x 3 mm, Pitch 0.95 mm; Package Type: DFN-6; Packing: Tape and Reel; RoHS: Pb-Free; Mounting Technology: Surface Mount; ComponentLink1Description: Manufacturer URL; ComponentLink1URL: http://www.onsemi.com/; ComponentLink2Description: Datasheet; ComponentLink2URL: http://www.onsemi.com/pub_link/Collateral/NTLGF3402P-D.PDF; ComponentLink3Description: Package Specification; ComponentLink3URL: http://www.onsemi.com/pub_link/Collateral/506AH.PDF
footprint ONSC-DFN-6-506AH-01_V (SON, 6-Leads, Body 3x3mm, Pitch 0.95mm, Thermal Pad 2.6x1.7mm)
pins: 1 A, 2 S, 3 G, 4 D/K, 5 S, 6 A, 7 EP

## NTLJD3115PT1G
designator Q?
Power MOSFET, -20 V, -4.1 A, uCool(TM) Dual P-Channel, 6-Pin WDFN, Pb-Free, Tape and Reel; Manufacturer: On Semiconductor; PartNumber: NTLJD3115PT1G; Channel Polarity: P Channel; Ciss Typ (pF): 531; Coss Typ (pF): 91; Crss Typ (pF): 56; ID Max (A): 4.1; Qrr Typ (nC): 5; V(BR)DSS Min (V): 20; VGS Max (V): 8; VGS(th) Max (V): 1; DatasheetVersion: Rev. 6; PackageVersion: Rev. G, 08/2013; PackageReference: WDFN-6-506AN; PackageDescription: 6-Pin Small Outline No-Lead, Body 2 x 2 mm, Pitch 0.65 mm; Configuration: Dual; Package Type: WDFN-6; Packing: Tape and Reel; RoHS: Pb-Free; Mounting Technology: Surface Mount; ComponentLink1Description: Manufacturer URL; ComponentLink1URL: http://www.onsemi.com/; ComponentLink2Description: Datasheet; ComponentLink2URL: http://www.onsemi.com/pub_link/Collateral/NTLJD3115P-D.PDF; ComponentLink3Description: Package Specification; ComponentLink3URL: http://www.onsemi.com/pub_link/Collateral/506AN.PDF
footprint ONSC-WDFN-6-506AN_V (DFN, 6-Leads, Body 2x2mm, Pitch 0.65mm)
part A pins: 1 S1, 2 G1, 6 D1, 7 D1
part B pins: 3 D2, 4 S2, 5 G2, 8 D2
part A text: 6, 7
part B text: 3, 8

## NTLJD3115PTAG
designator Q?
Power MOSFET, -20 V, -4.1 A, uCool(TM) Dual P-Channel, 6-Pin WDFN, Pb-Free, Tape and Reel; Manufacturer: On Semiconductor; PartNumber: NTLJD3115PTAG; Channel Polarity: P Channel; Ciss Typ (pF): 531; Coss Typ (pF): 91; Crss Typ (pF): 56; ID Max (A): 4.1; Qrr Typ (nC): 5; V(BR)DSS Min (V): 20; VGS Max (V): 8; VGS(th) Max (V): 1; DatasheetVersion: Rev. 6; PackageVersion: Rev. G, 08/2013; PackageReference: WDFN-6-506AN; PackageDescription: 6-Pin Small Outline No-Lead, Body 2 x 2 mm, Pitch 0.65 mm; Configuration: Dual; Package Type: WDFN-6; Packing: Tape and Reel; RoHS: Pb-Free; Mounting Technology: Surface Mount; ComponentLink1Description: Manufacturer URL; ComponentLink1URL: http://www.onsemi.com/; ComponentLink2Description: Datasheet; ComponentLink2URL: http://www.onsemi.com/pub_link/Collateral/NTLJD3115P-D.PDF; ComponentLink3Description: Package Specification; ComponentLink3URL: http://www.onsemi.com/pub_link/Collateral/506AN.PDF
footprint ONSC-WDFN-6-506AN_V (DFN, 6-Leads, Body 2x2mm, Pitch 0.65mm)
part A pins: 1 S1, 2 G1, 6 D1, 7 D1
part B pins: 3 D2, 4 S2, 5 G2, 8 D2
part A text: 6, 7
part B text: 3, 8

## NTLJD3119CTAG
designator Q?
Power MOSFET, 20 V / -20 V, 4.6 A / -4.1 A, uCool(TM) Complementary, 6-Pin WDFN, Pb-Free, Tape and Reel; Manufacturer: On Semiconductor; PartNumber: NTLJD3119CTAG; Configuration: Dual; V(BR)DSS Min (V): 20; VGS Max (V): 8; VGS(th) Max (V): 1; DatasheetVersion: Rev. 4; PackageVersion: Rev. D; PackageReference: WDFN-6-506-AN-01_D; PackageDescription: 6-Pin Small Outline No-Lead, Body 2 x 2 mm, Pitch 0.65 mm; Channel Polarity: Complementary; Package Type: WDFN-6; Packing: Tape and Reel; RoHS: Pb-Free; Mounting Technology: Surface Mount; ComponentLink1Description: Manufacturer URL; ComponentLink1URL: http://www.onsemi.com/; ComponentLink2Description: Datasheet; ComponentLink2URL: http://www.onsemi.com/pub_link/Collateral/NTLJD3119C-D.PDF; ComponentLink3Description: Package Specification; ComponentLink3URL: http://www.onsemi.com/pub_link/Collateral/NTLJD3119C-D.PDF
footprint ONSC-WDFN-6-506-AN-01_D_V (SON, 6-Leads, Body 2x2mm, Pitch 0.65mm)
part A pins: 1 S1, 2 G1, 6 D1, 7 D1
part B pins: 3 D2, 4 S2, 5 G2, 8 D2
part A text: 6, 7
part B text: 3, 8

## NTLJD3119CTBG
designator Q?
Power MOSFET, 20 V / -20 V, 4.6 A / -4.1 A, uCool(TM) Complementary, 6-Pin WDFN, Pb-Free, Tape and Reel; Manufacturer: On Semiconductor; PartNumber: NTLJD3119CTBG; Configuration: Dual; V(BR)DSS Min (V): 20; VGS Max (V): 8; VGS(th) Max (V): 1; DatasheetVersion: Rev. 4; PackageVersion: Rev. D; PackageReference: WDFN-6-506-AN-01_D; PackageDescription: 6-Pin Small Outline No-Lead, Body 2 x 2 mm, Pitch 0.65 mm; Channel Polarity: Complementary; Package Type: WDFN-6; Packing: Tape and Reel; RoHS: Pb-Free; Mounting Technology: Surface Mount; ComponentLink1Description: Manufacturer URL; ComponentLink1URL: http://www.onsemi.com/; ComponentLink2Description: Datasheet; ComponentLink2URL: http://www.onsemi.com/pub_link/Collateral/NTLJD3119C-D.PDF; ComponentLink3Description: Package Specification; ComponentLink3URL: http://www.onsemi.com/pub_link/Collateral/NTLJD3119C-D.PDF
footprint ONSC-WDFN-6-506-AN-01_D_V (SON, 6-Leads, Body 2x2mm, Pitch 0.65mm)
part A pins: 1 S1, 2 G1, 6 D1, 7 D1
part B pins: 3 D2, 4 S2, 5 G2, 8 D2
part A text: 6, 7
part B text: 3, 8